# EAGLE library part IC-LIS2DH12TR (library nRF9160-IC)
ACCEL 2-16G I2C/SPI 12LGA
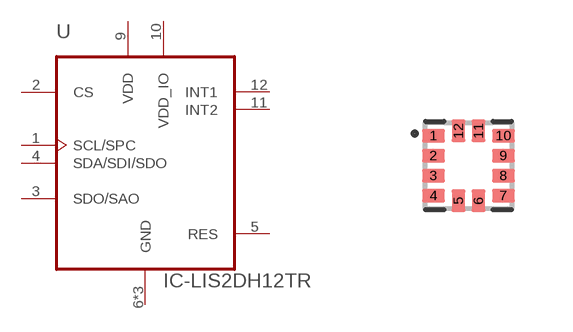
[diagram p1: symbol with the pads of PQFN50P200X200100-12N; footprint PQFN50P200X200100-12N]

Designator prefix U

## IC-LIS2DH12TR (AVAILABILITY: Good; DESCRIPTION: MEMS digital output motion sensor: ultra low-power high performance 3-axes femto accelerometer; DIGIKEYPN: 497-14851-1-ND; MF: STMicroelectronics; MPN: LIS2DH12TR; PACKAGE: LGA-12 STMicroelectronics; PRICE: 0.85 USD; PROD_ID: IC-14229; VOLTHIGH: 3.6; VOLTLOW: 1.71)  [PQFN50P200X200100-12N]
1  SCL/SPC
2  CS  in
3  SDO/SAO
4  SDA/SDI/SDO
5  RES  pwr
6  GND  pwr
7  GND  pwr
8  GND  pwr
9  VDD  pwr
10  VDD_IO  pwr
11  INT2  out
12  INT1  out

## Footprint PQFN50P200X200100-12N (pad centres in mm)
smd 0.575 x 0.35: 1 -0.875,0.75; 2 -0.875,0.25; 3 -0.875,-0.25; 4 -0.875,-0.75; 7 0.875,-0.75; 8 0.875,-0.25; 9 0.875,0.25; 10 0.875,0.75
smd 0.35 x 0.575: 5 -0.25,-0.875; 6 0.25,-0.875; 11 0.25,0.875; 12 -0.25,0.875